# Altium schematic symbol library Header_2P_Screwed_1.Schlib: 1 symbol
Pins are listed as number, name and electrical type; pins without a type are passive.

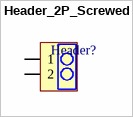
[diagram p0: symbol Header_2P_Screwed]

## Header_2P_Screwed
designator Header?
footprint Terminal Block_2P
pins: 1, 2